# Altium footprint library BHL_Compass.PcbLib: 13 footprints
Each footprint in its own frame and in the unit in brackets; x right, y up, seen from the top. Pads: shape width x height; smd on the part's side, far side on the other; paste and mask are expansions set on the pad; w line width, h text height; cw(c..) or ccw(c..) is an arc to the next point about the centre after c.
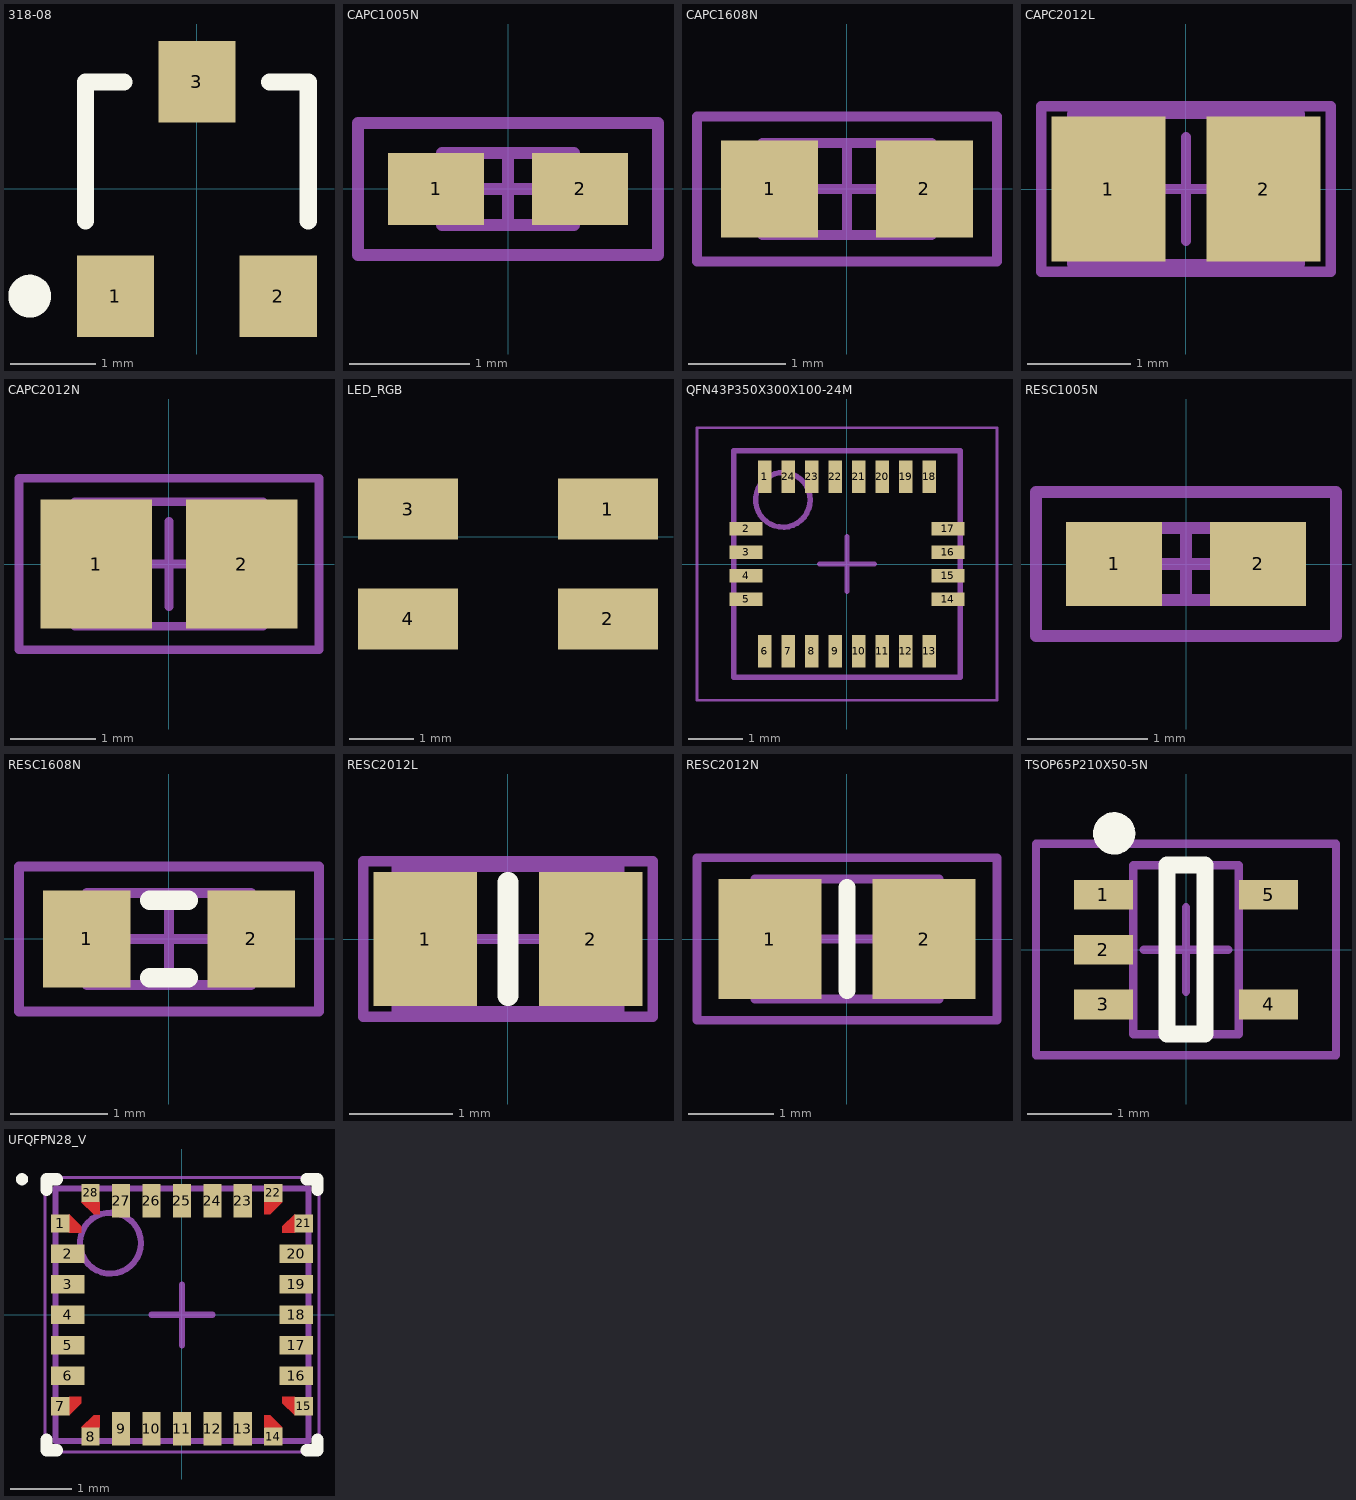
[diagram p0: the footprints below, top view; thin cyan lines are the x and y axes]

## 318-08 [mm] "SOT-23; 3 Leads; Body 3.0 x 2.6 mm, inc. leads (LxW max)"
height 1.11
pads (3):
  rect 0.9x0.95 smd: 1(-0.95,-1.25) 2(0.95,-1.25) 3(0,1.25)
Top Overlay:
  circle w0.25: c-1.95,-1.25 r0.125
  lines w0.2: -1.3,-0.375 -1.3,1.25 -0.85,1.25 ; 0.85,1.25 1.3,1.25 1.3,-0.375

## CAPC1005N [mm] "Chip Capacitor, Body 1.0x0.5mm, IPC Medium Density"
height 0.6
pads (2):
  rect 0.8x0.6 smd: 1(-0.6,0) 2(0.6,0)
Mechanical 13:
  lines w0.1: -0.55,-0.3 -0.55,0.3 0.55,0.3 0.55,-0.3 -0.55,-0.3
Mechanical 15:
  lines w0.1: -0.3,0 0.3,0 ; 0,-0.3 0,0.3 ; -1.25,-0.55 -1.25,0.55 1.25,0.55 1.25,-0.55 -1.25,-0.55
3D body: height 0.6, standoff 0, extent -0.55,-0.3 0.55,0.3

## CAPC1608N [mm] "Chip Capacitor, Body 1.6x0.8mm, IPC Medium Density"
height 0.85
pads (2):
  rect 1x1 smd: 1(-0.8,0) 2(0.8,0)
Mechanical 13:
  lines w0.1: -0.875,-0.475 0.875,-0.475 0.875,0.475 -0.875,0.475 -0.875,-0.475
Mechanical 15:
  lines w0.1: -0.475,0 0.475,0 ; 0,-0.475 0,0.475 ; -1.55,-0.75 1.55,-0.75 1.55,0.75 -1.55,0.75 -1.55,-0.75
3D body: height 0.85, standoff 0, extent -0.875,-0.475 0.875,0.475

## CAPC2012L [mm] "Chip Capacitor, Body 2.0x1.3mm, IPC High Density"
height 1.4
pads (2):
  rect 1.1x1.4 smd: 1(-0.75,0) 2(0.75,0)
Mechanical 13:
  lines w0.1: -1.1,-0.725 1.1,-0.725 1.1,0.725 -1.1,0.725 -1.1,-0.725
Mechanical 15:
  lines w0.1: -0.5,0 0.5,0 ; 0,-0.5 0,0.5 ; -1.4,-0.8 1.4,-0.8 1.4,0.8 -1.4,0.8 -1.4,-0.8
3D body: height 1.4, standoff 0, extent -1.1,-0.725 1.1,0.725

## CAPC2012N [mm] "Chip Capacitor, Body 2.0x1.3mm, IPC Medium Density"
height 1.1
pads (2):
  rect 1.3x1.5 smd: 1(-0.85,0) 2(0.85,0)
Mechanical 13:
  lines w0.1: -1.1,-0.725 1.1,-0.725 1.1,0.725 -1.1,0.725 -1.1,-0.725
Mechanical 15:
  lines w0.1: -0.5,0 0.5,0 ; 0,-0.5 0,0.5 ; -1.75,-1 1.75,-1 1.75,1 -1.75,1 -1.75,-1
3D body: height 1.1, standoff 0, extent -1.1,-0.725 1.1,0.725

## LED_RGB [mm]
height 1.9
pads (4):
  rect 1.55x0.95 smd: 1(-1.27,0.432) 2(-1.27,-1.27) 3(-4.369,0.432) 4(-4.369,-1.27)

## QFN43P350X300X100-24M [mm] "QFN, 24-Leads, Body 3,50x3,00mm, Pitch 0,43mm, IPC Low Density"
height 1
pads (24):
  rect 0.25x0.6 smd: 1(-1.505,1.6) 6(-1.505,-1.6) 7(-1.075,-1.6) 8(-0.645,-1.6) 9(-0.215,-1.6) 10(0.215,-1.6) 11(0.645,-1.6) 12(1.075,-1.6) 13(1.505,-1.6) 18(1.505,1.6) 19(1.075,1.6) 20(0.645,1.6) 21(0.215,1.6) 22(-0.215,1.6) 23(-0.645,1.6) 24(-1.075,1.6)
  rect 0.6x0.25 smd: 2(-1.85,0.645) 3(-1.85,0.215) 4(-1.85,-0.215) 5(-1.85,-0.645) 14(1.85,-0.645) 15(1.85,-0.215) 16(1.85,0.215) 17(1.85,0.645)
Mechanical 13:
  circle w0.1: c-1.175,1.175 r0.5
  lines w0.1: -2.075,-2.075 -2.075,2.075 2.075,2.075 2.075,-2.075 -2.075,-2.075
Mechanical 15:
  lines w0.05: -2.75,-2.5 -2.75,2.5 2.75,2.5 2.75,-2.5 -2.75,-2.5
  lines w0.1: -0.5,0 0.5,0 ; 0,-0.5 0,0.5
3D body: height 1, standoff 0.13, extent -1.825,-1.575 1.825,1.575

## RESC1005N [mm] "Chip Resistor, Body 1.1x0.5mm, IPC Medium Density"
height 0.4
pads (2):
  rect 0.8x0.7 smd: 1(-0.6,0) 2(0.6,0)
Mechanical 13:
  lines w0.1: -0.55,-0.3 -0.55,0.3 0.55,0.3 0.55,-0.3 -0.55,-0.3
Mechanical 15:
  lines w0.1: -0.3,0 0.3,0 ; 0,-0.3 0,0.3 ; -1.25,-0.6 -1.25,0.6 1.25,0.6 1.25,-0.6 -1.25,-0.6
3D body: height 0.4, standoff 0, extent -0.55,-0.3 0.55,0.3

## RESC1608N [mm] "Chip Resistor, Body 1.6x0.8mm, IPC Medium Density"
height 0.6
pads (2):
  rect 0.9x1 smd: 1(-0.85,0) 2(0.85,0)
Top Overlay:
  lines w0.2: -0.2,-0.4 0.2,-0.4 ; -0.2,0.4 0.2,0.4
Mechanical 13:
  lines w0.1: -0.85,-0.475 -0.85,0.475 0.85,0.475 0.85,-0.475 -0.85,-0.475
Mechanical 15:
  lines w0.1: -0.475,0 0.475,0 ; 0,-0.475 0,0.475 ; -1.55,-0.75 -1.55,0.75 1.55,0.75 1.55,-0.75 -1.55,-0.75
3D body: height 0.6, standoff 0, extent -0.85,-0.475 0.85,0.475

## RESC2012L [mm] "Chip Resistor, Body 2.0x1.3mm, IPC High Density"
height 2.54
pads (2):
  rect 1x1.3 smd: 1(-0.8,0) 2(0.8,0)
Top Overlay:
  lines w0.2: 0,-0.55 0,0.55
Mechanical 13:
  lines w0.1: -1.075,-0.7 1.075,-0.7 1.075,0.7 -1.075,0.7 -1.075,-0.7
Mechanical 15:
  lines w0.1: -0.5,0 0.5,0 ; 0,-0.5 0,0.5 ; -1.4,-0.75 1.4,-0.75 1.4,0.75 -1.4,0.75 -1.4,-0.75
3D body: height 2.54, standoff 0, extent -1.075,-0.7 1.075,0.7

## RESC2012N [mm] "Chip Resistor, Body 2.0x1.3mm, IPC Medium Density"
height 0.65
pads (2):
  rect 1.2x1.4 smd: 1(-0.9,0) 2(0.9,0)
Top Overlay:
  lines w0.2: 0,-0.6 0,0.6
Mechanical 13:
  lines w0.1: -1.075,-0.7 -1.075,0.7 1.075,0.7 1.075,-0.7 -1.075,-0.7
Mechanical 15:
  lines w0.1: -0.5,0 0.5,0 ; 0,-0.5 0,0.5 ; -1.75,-0.95 -1.75,0.95 1.75,0.95 1.75,-0.95 -1.75,-0.95
3D body: height 0.65, standoff 0, extent -1.075,-0.7 1.075,0.7

## TSOP65P210X50-5N [mm] "TSOP, 5-Leads, Body 2.0x1.3mm (max), Pitch 0.65mm, IPC Medium Density"
height 0.5
pads (5):
  rect 0.7x0.35 smd: 1(-0.977,0.65) 2(-0.977,0) 3(-0.977,-0.65) 4(0.977,-0.65) 5(0.977,0.65)
Top Overlay:
  circle w0.25: c-0.85,1.375 r0.125
  lines w0.2: -0.225,-1 0.225,-1 0.225,1 -0.225,1 -0.225,-1
Mechanical 13:
  lines w0.1: -0.625,-1 0.625,-1 0.625,1 -0.625,1 -0.625,-1
Mechanical 15:
  lines w0.1: -0.5,0 0.5,0 ; 0,-0.5 0,0.5 ; -1.775,-1.25 1.775,-1.25 1.775,1.25 -1.775,1.25 -1.775,-1.25
3D body: height 0.5, standoff 0.1, extent -0.625,-1 0.625,1

## UFQFPN28_V [mm] "QFN, 28-Leads, Body 4x4mm, Pitch 0.5mm, ST Recommended"
height 0.6
pads (28):
  rect 0.3x0.3 smd paste+0 mask-0.15: 1(-2,1.5) 7(-2,-1.5) 8(-1.5,-2) 14(1.5,-2) 15(2,-1.5) 21(2,1.5) 22(1.5,2) 28(-1.5,2)
  rect 0.55x0.3 smd paste+0 mask+0.06: 2(-1.875,1) 3(-1.875,0.5) 4(-1.875,0) 5(-1.875,-0.5) 6(-1.875,-1) 16(1.875,-1) 17(1.875,-0.5) 18(1.875,0) 19(1.875,0.5) 20(1.875,1)
  rect 0.3x0.55 smd paste+0 mask+0.06: 9(-1,-1.875) 10(-0.5,-1.875) 11(0,-1.875) 12(0.5,-1.875) 13(1,-1.875) 23(1,1.875) 24(0.5,1.875) 25(0,1.875) 26(-0.5,1.875) 27(-1,1.875)
Top Layer:
  region: 1.65,-1.35 1.85,-1.35 2,-1.5 1.85,-1.65 1.65,-1.45
  region: -1.65,-1.35 -1.85,-1.35 -2,-1.5 -1.85,-1.65 -1.65,-1.45
  region: 1.65,1.35 1.85,1.35 2,1.5 1.85,1.65 1.65,1.45
  region: 1.35,-1.65 1.35,-1.85 1.5,-2 1.65,-1.85 1.45,-1.65
  region: 1.35,1.65 1.35,1.85 1.5,2 1.65,1.85 1.45,1.65
  region: -1.35,1.65 -1.35,1.85 -1.5,2 -1.65,1.85 -1.45,1.65
  region: -1.35,-1.65 -1.35,-1.85 -1.5,-2 -1.65,-1.85 -1.45,-1.65
  region: -1.65,1.35 -1.85,1.35 -2,1.5 -1.85,1.65 -1.65,1.45
Top Overlay:
  circle w0.1: c-2.625,2.225 r0.05
  lines w0.2: -2.225,-2.05 -2.225,-2.225 -2.05,-2.225 ; -2.225,2.05 -2.225,2.225 -2.05,2.225 ; 2.05,-2.225 2.225,-2.225 2.225,-2.05 ; 2.05,2.225 2.225,2.225 2.225,2.05
Top Paste:
  region: -1.65,1.35 -1.85,1.35 -1.85,1.65 -1.65,1.45
  region: -1.35,-1.65 -1.35,-1.85 -1.65,-1.85 -1.45,-1.65
  region: 1.35,-1.65 1.35,-1.85 1.65,-1.85 1.45,-1.65
  region: 1.65,1.35 1.85,1.35 1.85,1.65 1.65,1.45
  region: -1.35,1.65 -1.35,1.85 -1.65,1.85 -1.45,1.65
  region: -1.65,-1.35 -1.85,-1.35 -1.85,-1.65 -1.65,-1.45
  region: 1.65,-1.35 1.85,-1.35 1.85,-1.65 1.65,-1.45
  region: 1.35,1.65 1.35,1.85 1.65,1.85 1.45,1.65
Top Solder:
  region: -1.825,1.71 -2.21,1.71 -2.21,1.29 -1.59,1.29 -1.59,1.475
  region: -1.71,-1.825 -1.71,-2.21 -1.29,-2.21 -1.29,-1.59 -1.475,-1.59
  region: 1.71,-1.825 1.71,-2.21 1.29,-2.21 1.29,-1.59 1.475,-1.59
  region: 1.825,1.71 2.21,1.71 2.21,1.29 1.59,1.29 1.59,1.475
  region: -1.71,1.825 -1.71,2.21 -1.29,2.21 -1.29,1.59 -1.475,1.59
  region: -1.825,-1.71 -2.21,-1.71 -2.21,-1.29 -1.59,-1.29 -1.59,-1.475
  region: 1.825,-1.71 2.21,-1.71 2.21,-1.29 1.59,-1.29 1.59,-1.475
  region: 1.71,1.825 1.71,2.21 1.29,2.21 1.29,1.59 1.475,1.59
Mechanical 13:
  circle w0.1: c-1.175,1.175 r0.5
  lines w0.1: -2.075,-2.075 2.075,-2.075 2.075,2.075 -2.075,2.075 -2.075,-2.075
Mechanical 15:
  lines w0.05: -2.25,-2.25 2.25,-2.25 2.25,2.25 -2.25,2.25 -2.25,-2.25
  lines w0.1: -0.5,0 0.5,0 ; 0,-0.5 0,0.5
3D body: height 0.6, standoff 0, extent -2.075,-2.075 2.075,2.075